# Altium footprint library 59S20X400T5Z.PcbLib: 1 footprints
Each footprint in its own frame and in the unit in brackets; x right, y up, seen from the top. Pads: shape width x height; smd on the part's side, far side on the other; paste and mask are expansions set on the pad; w line width, h text height; cw(c..) or ccw(c..) is an arc to the next point about the centre after c.
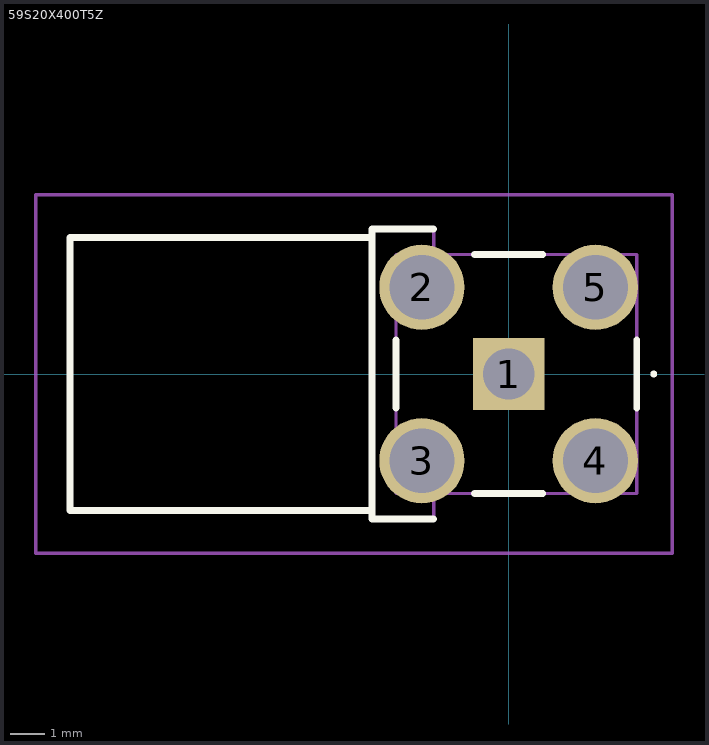
[diagram p0: the footprint, top view; thin cyan lines are the x and y axes]

## 59S20X400T5Z [mm]
pads (5):
  rect 2.1x2.1 hole 1.5: 1(0,0)
  round 2.5 hole 1.9: 2(-2.54,2.54) 3(-2.54,-2.54) 4(2.54,-2.54) 5(2.54,2.54)
Top Overlay:
  lines w0.1: 4.2,0 4.2,0 ; 4.2,0 ccw(c4.25,0) 4.3,0 ; 4.2,0 cw(c4.25,0) 4.3,0 ; 4.3,0 4.3,0
  lines w0.2: -3.3,-1 -3.3,1 ; -2.2,-4.25 -4,-4.25 -4,-4 ; -2.2,4.25 -4,4.25 -4,4 ; -1,-3.5 1,-3.5 ; -1,3.5 1,3.5 ; 3.75,-1 3.75,1 ; -4,-4 -12.85,-4 -12.85,4 -4,4 ; -4,-4 -4,4 ; -4,4 -4,4
Mechanical 15:
  lines w0.1: -4,-4 -12.85,-4 -12.85,4 -4,4 ; -2.2,-3.5 -2.2,-4.25 -4,-4.25 ; -2.2,3.5 -2.2,4.25 -4,4.25 -4,-4.25 ; -4,-4.25 -4,-4.25 ; -3.3,-3.5 3.75,-3.5 3.75,3.5 -3.3,3.5 -3.3,-3.5
Mechanical 20:
  lines w0.1: -13.85,-5.25 4.79,-5.25 4.79,5.25 -13.85,5.25 -13.85,-5.25